# EAGLE library part SEAM-40-03.0-S-06-2-A-K-TR (library SEAM-40-03.0-S-06-2-A-K-TR)
Check availability <https://pricing.snapeda.com/parts/SEAM-40-03.0-S-06-2-A-K-TR/Samtec/view-part?ref=eda>
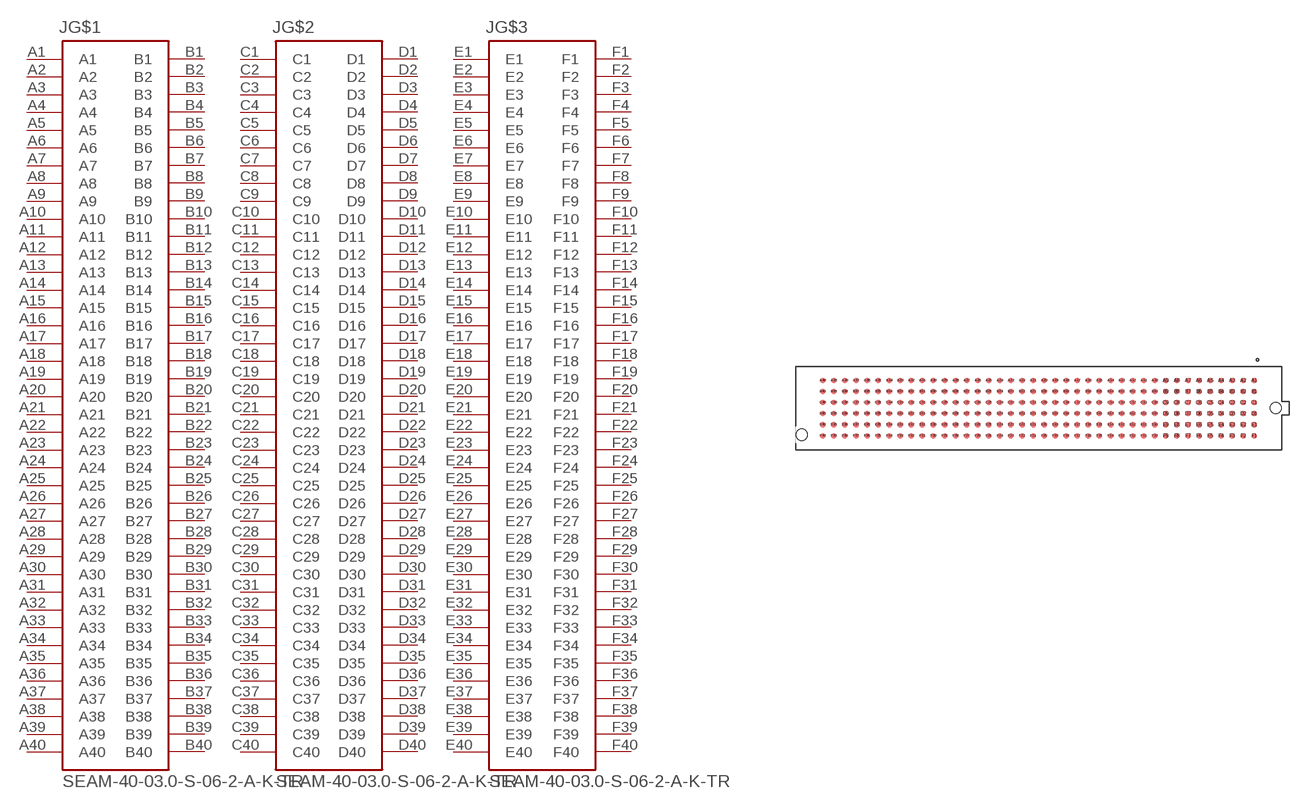
[diagram p0: symbol with the pads of SAMTEC_SEAM-40-03.0-S-06-2-A-K-TR; footprint SAMTEC_SEAM-40-03.0-S-06-2-A-K-TR]

Designator prefix J; gates G$1=SEAM-40-03.0-S-06-2-A-K-TR_SECTION1 G$2=SEAM-40-03.0-S-06-2-A-K-TR_SECTION2 G$3=SEAM-40-03.0-S-06-2-A-K-TR_SECTION3

## SEAM-40-03.0-S-06-2-A-K-TR (Availability: In Stock; Description: SEAM - Samtec 1.27mm SEARAY™ High-Speed High-Density Open-Pin-Field Array Terminal; MF: Samtec; MP: SEAM-40-03.0-S-06-2-A-K-TR; Package: None; Price: None; Purchase-URL: https://pricing.snapeda.com/search/part/SEAM-40-03.0-S-06-2-A-K-TR/?ref=eda)  [SAMTEC_SEAM-40-03.0-S-06-2-A-K-TR]
A1  G$1:A1  pas
A2  G$1:A2  pas
A3  G$1:A3  pas
A4  G$1:A4  pas
A5  G$1:A5  pas
A6  G$1:A6  pas
A7  G$1:A7  pas
A8  G$1:A8  pas
A9  G$1:A9  pas
A10  G$1:A10  pas
A11  G$1:A11  pas
A12  G$1:A12  pas
A13  G$1:A13  pas
A14  G$1:A14  pas
A15  G$1:A15  pas
A16  G$1:A16  pas
A17  G$1:A17  pas
A18  G$1:A18  pas
A19  G$1:A19  pas
A20  G$1:A20  pas
A21  G$1:A21  pas
A22  G$1:A22  pas
A23  G$1:A23  pas
A24  G$1:A24  pas
A25  G$1:A25  pas
A26  G$1:A26  pas
A27  G$1:A27  pas
A28  G$1:A28  pas
A29  G$1:A29  pas
A30  G$1:A30  pas
A31  G$1:A31  pas
A32  G$1:A32  pas
A33  G$1:A33  pas
A34  G$1:A34  pas
A35  G$1:A35  pas
A36  G$1:A36  pas
A37  G$1:A37  pas
A38  G$1:A38  pas
A39  G$1:A39  pas
A40  G$1:A40  pas
B1  G$1:B1  pas
B2  G$1:B2  pas
B3  G$1:B3  pas
B4  G$1:B4  pas
B5  G$1:B5  pas
B6  G$1:B6  pas
B7  G$1:B7  pas
B8  G$1:B8  pas
B9  G$1:B9  pas
B10  G$1:B10  pas
B11  G$1:B11  pas
B12  G$1:B12  pas
B13  G$1:B13  pas
B14  G$1:B14  pas
B15  G$1:B15  pas
B16  G$1:B16  pas
B17  G$1:B17  pas
B18  G$1:B18  pas
B19  G$1:B19  pas
B20  G$1:B20  pas
B21  G$1:B21  pas
B22  G$1:B22  pas
B23  G$1:B23  pas
B24  G$1:B24  pas
B25  G$1:B25  pas
B26  G$1:B26  pas
B27  G$1:B27  pas
B28  G$1:B28  pas
B29  G$1:B29  pas
B30  G$1:B30  pas
B31  G$1:B31  pas
B32  G$1:B32  pas
B33  G$1:B33  pas
B34  G$1:B34  pas
B35  G$1:B35  pas
B36  G$1:B36  pas
B37  G$1:B37  pas
B38  G$1:B38  pas
B39  G$1:B39  pas
B40  G$1:B40  pas
C1  G$2:C1  pas
C2  G$2:C2  pas
C3  G$2:C3  pas
C4  G$2:C4  pas
C5  G$2:C5  pas
C6  G$2:C6  pas
C7  G$2:C7  pas
C8  G$2:C8  pas
C9  G$2:C9  pas
C10  G$2:C10  pas
C11  G$2:C11  pas
C12  G$2:C12  pas
C13  G$2:C13  pas
C14  G$2:C14  pas
C15  G$2:C15  pas
C16  G$2:C16  pas
C17  G$2:C17  pas
C18  G$2:C18  pas
C19  G$2:C19  pas
C20  G$2:C20  pas
C21  G$2:C21  pas
C22  G$2:C22  pas
C23  G$2:C23  pas
C24  G$2:C24  pas
C25  G$2:C25  pas
C26  G$2:C26  pas
C27  G$2:C27  pas
C28  G$2:C28  pas
C29  G$2:C29  pas
C30  G$2:C30  pas
C31  G$2:C31  pas
C32  G$2:C32  pas
C33  G$2:C33  pas
C34  G$2:C34  pas
C35  G$2:C35  pas
C36  G$2:C36  pas
C37  G$2:C37  pas
C38  G$2:C38  pas
C39  G$2:C39  pas
C40  G$2:C40  pas
D1  G$2:D1  pas
D2  G$2:D2  pas
D3  G$2:D3  pas
D4  G$2:D4  pas
D5  G$2:D5  pas
D6  G$2:D6  pas
D7  G$2:D7  pas
D8  G$2:D8  pas
D9  G$2:D9  pas
D10  G$2:D10  pas
D11  G$2:D11  pas
D12  G$2:D12  pas
D13  G$2:D13  pas
D14  G$2:D14  pas
D15  G$2:D15  pas
D16  G$2:D16  pas
D17  G$2:D17  pas
D18  G$2:D18  pas
D19  G$2:D19  pas
D20  G$2:D20  pas
D21  G$2:D21  pas
D22  G$2:D22  pas
D23  G$2:D23  pas
D24  G$2:D24  pas
D25  G$2:D25  pas
D26  G$2:D26  pas
D27  G$2:D27  pas
D28  G$2:D28  pas
D29  G$2:D29  pas
D30  G$2:D30  pas
D31  G$2:D31  pas
D32  G$2:D32  pas
D33  G$2:D33  pas
D34  G$2:D34  pas
D35  G$2:D35  pas
D36  G$2:D36  pas
D37  G$2:D37  pas
D38  G$2:D38  pas
D39  G$2:D39  pas
D40  G$2:D40  pas
E1  G$3:E1  pas
E2  G$3:E2  pas
E3  G$3:E3  pas
E4  G$3:E4  pas
E5  G$3:E5  pas
E6  G$3:E6  pas
E7  G$3:E7  pas
E8  G$3:E8  pas
E9  G$3:E9  pas
E10  G$3:E10  pas
E11  G$3:E11  pas
E12  G$3:E12  pas
E13  G$3:E13  pas
E14  G$3:E14  pas
E15  G$3:E15  pas
E16  G$3:E16  pas
E17  G$3:E17  pas
E18  G$3:E18  pas
E19  G$3:E19  pas
E20  G$3:E20  pas
E21  G$3:E21  pas
E22  G$3:E22  pas
E23  G$3:E23  pas
E24  G$3:E24  pas
E25  G$3:E25  pas
E26  G$3:E26  pas
E27  G$3:E27  pas
E28  G$3:E28  pas
E29  G$3:E29  pas
E30  G$3:E30  pas
E31  G$3:E31  pas
E32  G$3:E32  pas
E33  G$3:E33  pas
E34  G$3:E34  pas
E35  G$3:E35  pas
E36  G$3:E36  pas
E37  G$3:E37  pas
E38  G$3:E38  pas
E39  G$3:E39  pas
E40  G$3:E40  pas
F1  G$3:F1  pas
F2  G$3:F2  pas
F3  G$3:F3  pas
F4  G$3:F4  pas
F5  G$3:F5  pas
F6  G$3:F6  pas
F7  G$3:F7  pas
F8  G$3:F8  pas
F9  G$3:F9  pas
F10  G$3:F10  pas
F11  G$3:F11  pas
F12  G$3:F12  pas
F13  G$3:F13  pas
F14  G$3:F14  pas
F15  G$3:F15  pas
F16  G$3:F16  pas
F17  G$3:F17  pas
F18  G$3:F18  pas
F19  G$3:F19  pas
F20  G$3:F20  pas
F21  G$3:F21  pas
F22  G$3:F22  pas
F23  G$3:F23  pas
F24  G$3:F24  pas
F25  G$3:F25  pas
F26  G$3:F26  pas
F27  G$3:F27  pas
F28  G$3:F28  pas
F29  G$3:F29  pas
F30  G$3:F30  pas
F31  G$3:F31  pas
F32  G$3:F32  pas
F33  G$3:F33  pas
F34  G$3:F34  pas
F35  G$3:F35  pas
F36  G$3:F36  pas
F37  G$3:F37  pas
F38  G$3:F38  pas
F39  G$3:F39  pas
F40  G$3:F40  pas

## Footprint SAMTEC_SEAM-40-03.0-S-06-2-A-K-TR (pad centres in mm)
smd 0.64 x 0.64: A1 24.765,3.175; A2 23.495,3.175; A3 22.225,3.175; A4 20.955,3.175; A5 19.685,3.175; A6 18.415,3.175; A7 17.145,3.175; A8 15.875,3.175; A9 14.605,3.175; A10 13.335,3.175; A11 12.065,3.175; A12 10.795,3.175; A13 9.525,3.175; A14 8.255,3.175; A15 6.985,3.175; A16 5.715,3.175; A17 4.445,3.175; A18 3.175,3.175; A19 1.905,3.175; A20 0.635,3.175; A21 -0.635,3.175; A22 -1.905,3.175; A23 -3.175,3.175; A24 -4.445,3.175; A25 -5.715,3.175; A26 -6.985,3.175; A27 -8.255,3.175; A28 -9.525,3.175; A29 -10.795,3.175; A30 -12.065,3.175; A31 -13.335,3.175; A32 -14.605,3.175; A33 -15.875,3.175; A34 -17.145,3.175; A35 -18.415,3.175; A36 -19.685,3.175; A37 -20.955,3.175; A38 -22.225,3.175; A39 -23.495,3.175; A40 -24.765,3.175; B1 24.765,1.905; B2 23.495,1.905; B3 22.225,1.905; B4 20.955,1.905; B5 19.685,1.905; B6 18.415,1.905; B7 17.145,1.905; B8 15.875,1.905; B9 14.605,1.905; B10 13.335,1.905; B11 12.065,1.905; B12 10.795,1.905; B13 9.525,1.905; B14 8.255,1.905; B15 6.985,1.905; B16 5.715,1.905; B17 4.445,1.905; B18 3.175,1.905; B19 1.905,1.905; B20 0.635,1.905; B21 -0.635,1.905; B22 -1.905,1.905; B23 -3.175,1.905; B24 -4.445,1.905; B25 -5.715,1.905; B26 -6.985,1.905; B27 -8.255,1.905; B28 -9.525,1.905; B29 -10.795,1.905; B30 -12.065,1.905; B31 -13.335,1.905; B32 -14.605,1.905; B33 -15.875,1.905; B34 -17.145,1.905; B35 -18.415,1.905; B36 -19.685,1.905; B37 -20.955,1.905; B38 -22.225,1.905; B39 -23.495,1.905; B40 -24.765,1.905; C1 24.765,0.635; C2 23.495,0.635; C3 22.225,0.635; C4 20.955,0.635; C5 19.685,0.635; C6 18.415,0.635; C7 17.145,0.635; C8 15.875,0.635; C9 14.605,0.635; C10 13.335,0.635; C11 12.065,0.635; C12 10.795,0.635; C13 9.525,0.635; C14 8.255,0.635; C15 6.985,0.635; C16 5.715,0.635; C17 4.445,0.635; C18 3.175,0.635; C19 1.905,0.635; C20 0.635,0.635; C21 -0.635,0.635; C22 -1.905,0.635; C23 -3.175,0.635; C24 -4.445,0.635; C25 -5.715,0.635; C26 -6.985,0.635; C27 -8.255,0.635; C28 -9.525,0.635; C29 -10.795,0.635; C30 -12.065,0.635; C31 -13.335,0.635; C32 -14.605,0.635; C33 -15.875,0.635; C34 -17.145,0.635; C35 -18.415,0.635; C36 -19.685,0.635; C37 -20.955,0.635; C38 -22.225,0.635; C39 -23.495,0.635; C40 -24.765,0.635; D1 24.765,-0.635; D2 23.495,-0.635; D3 22.225,-0.635; D4 20.955,-0.635; D5 19.685,-0.635; D6 18.415,-0.635; D7 17.145,-0.635; D8 15.875,-0.635; D9 14.605,-0.635; D10 13.335,-0.635; D11 12.065,-0.635; D12 10.795,-0.635; D13 9.525,-0.635; D14 8.255,-0.635; D15 6.985,-0.635; D16 5.715,-0.635; D17 4.445,-0.635; D18 3.175,-0.635; D19 1.905,-0.635; D20 0.635,-0.635; D21 -0.635,-0.635; D22 -1.905,-0.635; D23 -3.175,-0.635; D24 -4.445,-0.635; D25 -5.715,-0.635; D26 -6.985,-0.635; D27 -8.255,-0.635; D28 -9.525,-0.635; D29 -10.795,-0.635; D30 -12.065,-0.635; D31 -13.335,-0.635; D32 -14.605,-0.635; D33 -15.875,-0.635; D34 -17.145,-0.635; D35 -18.415,-0.635; D36 -19.685,-0.635; D37 -20.955,-0.635; D38 -22.225,-0.635; D39 -23.495,-0.635; D40 -24.765,-0.635; E1 24.765,-1.905; E2 23.495,-1.905; E3 22.225,-1.905; E4 20.955,-1.905; E5 19.685,-1.905; E6 18.415,-1.905; E7 17.145,-1.905; E8 15.875,-1.905; E9 14.605,-1.905; E10 13.335,-1.905; E11 12.065,-1.905; E12 10.795,-1.905; E13 9.525,-1.905; E14 8.255,-1.905; E15 6.985,-1.905; E16 5.715,-1.905; E17 4.445,-1.905; E18 3.175,-1.905; E19 1.905,-1.905; E20 0.635,-1.905; E21 -0.635,-1.905; E22 -1.905,-1.905; E23 -3.175,-1.905; E24 -4.445,-1.905; E25 -5.715,-1.905; E26 -6.985,-1.905; E27 -8.255,-1.905; E28 -9.525,-1.905; E29 -10.795,-1.905; E30 -12.065,-1.905; E31 -13.335,-1.905; E32 -14.605,-1.905; E33 -15.875,-1.905; E34 -17.145,-1.905; E35 -18.415,-1.905; E36 -19.685,-1.905; E37 -20.955,-1.905; E38 -22.225,-1.905; E39 -23.495,-1.905; E40 -24.765,-1.905; F1 24.765,-3.175; F2 23.495,-3.175; F3 22.225,-3.175; F4 20.955,-3.175; F5 19.685,-3.175; F6 18.415,-3.175; F7 17.145,-3.175; F8 15.875,-3.175; F9 14.605,-3.175; F10 13.335,-3.175; F11 12.065,-3.175; F12 10.795,-3.175; F13 9.525,-3.175; F14 8.255,-3.175; F15 6.985,-3.175; F16 5.715,-3.175; F17 4.445,-3.175; F18 3.175,-3.175; F19 1.905,-3.175; F20 0.635,-3.175; F21 -0.635,-3.175; F22 -1.905,-3.175; F23 -3.175,-3.175; F24 -4.445,-3.175; F25 -5.715,-3.175; F26 -6.985,-3.175; F27 -8.255,-3.175; F28 -9.525,-3.175; F29 -10.795,-3.175; F30 -12.065,-3.175; F31 -13.335,-3.175; F32 -14.605,-3.175; F33 -15.875,-3.175; F34 -17.145,-3.175; F35 -18.415,-3.175; F36 -19.685,-3.175; F37 -20.955,-3.175; F38 -22.225,-3.175; F39 -23.495,-3.175; F40 -24.765,-3.175
hole 1.27 at -27.19,-3.05
hole 1.27 at 27.19,0